# Altium footprint library GhaniLibrary.PcbLib: 33 footprints (part 3 of 3)
Each footprint in its own frame and in the unit in brackets; x right, y up, seen from the top. Pads: shape width x height; smd on the part's side, far side on the other; paste and mask are expansions set on the pad; w line width, h text height; cw(c..) or ccw(c..) is an arc to the next point about the centre after c.
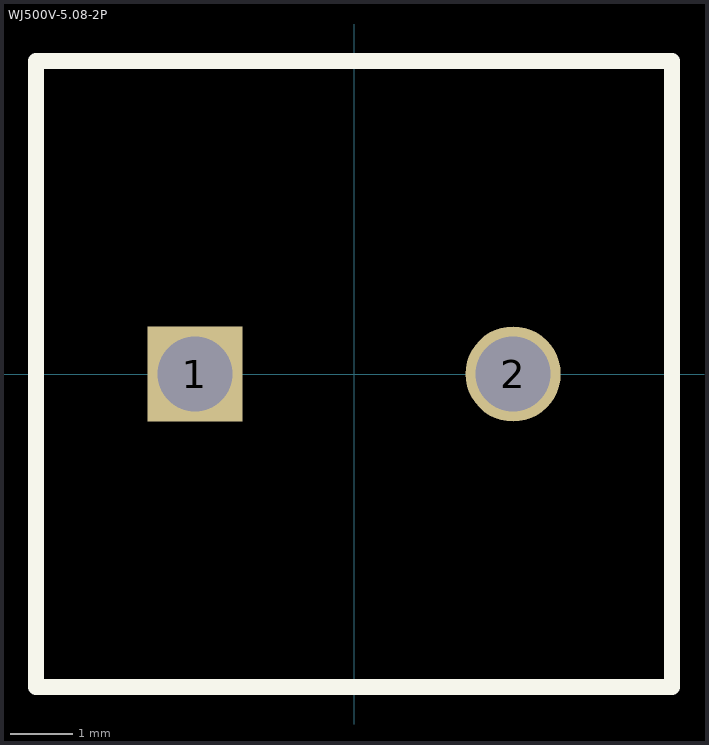
[diagram p2: the footprint, top view; thin cyan lines are the x and y axes]

## WJ500V-5.08-2P [mm]
pads (2):
  rect 1.52x1.52 hole 1.2: 1(-2.54,0)
  round 1.52 hole 1.2: 2(2.54,0)
Top Overlay:
  lines w0.254: -5.08,-5 5.08,-5 5.08,5 -5.08,5 -5.08,-5
3D body "Terminal_Screw_5.08mm_2P.stp": height 18.3, standoff -5, extent -5.67,-5.41 5.06,5.77